# Altium schematic symbol library GENERIC_BUZZER.SchLib: 1 symbol
Pins are listed as number, name and electrical type; pins without a type are passive.

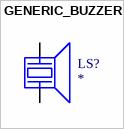
[diagram p0: symbol GENERIC_BUZZER]

## GENERIC_BUZZER
designator LS?
pins: 1, 2